# Altium footprint library FA-20H 40.0000MF10Z-K3.PcbLib: 1 footprints
Each footprint in its own frame and in the unit in brackets; x right, y up, seen from the top. Pads: shape width x height; smd on the part's side, far side on the other; paste and mask are expansions set on the pad; w line width, h text height; cw(c..) or ccw(c..) is an arc to the next point about the centre after c.
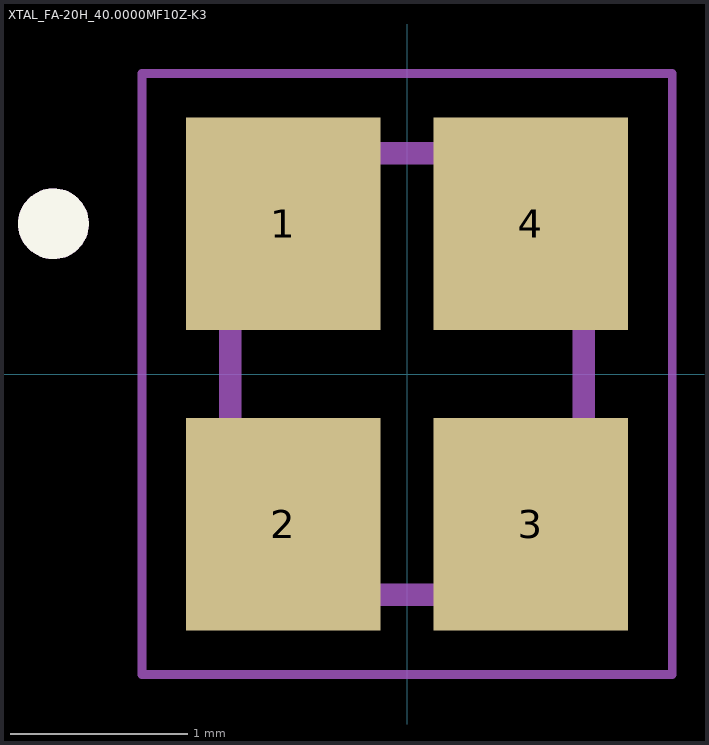
[diagram p0: the footprint, top view; thin cyan lines are the x and y axes]

## XTAL_FA-20H_40.0000MF10Z-K3 [mm]
pads (4):
  rect 1.1x1.2 smd: 1(-0.7,0.85) 2(-0.7,-0.85) 3(0.7,-0.85) 4(0.7,0.85)
Top Overlay:
  circle w0.2: c-2,0.85 r0.1
Mechanical 13:
  circle w0.2: c-2,0.85 r0.1
  lines w0.127: -1,-1.25 1,-1.25 1,1.25 -1,1.25 -1,-1.25
Mechanical 15:
  lines w0.05: -1.5,-1.7 1.5,-1.7 1.5,1.7 -1.5,1.7 -1.5,-1.7
3D body "step_temp.STEP": height 0.55, standoff 0, extent -1,-1.25 1,1.25